# EAGLE library part ADG715BRUZ (library HEXABITZ_ICs)
Analog Switch Octal SPST 24-Pin TSSOP Tube
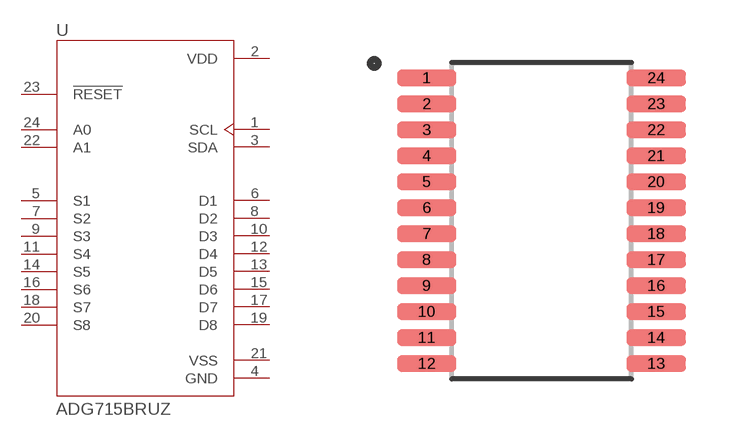
[diagram p0: symbol with the pads of SOP65P640X120-24N; footprint SOP65P640X120-24N]

Designator prefix U

## ADG715BRUZ (AVAILABILITY: Unavailable; DESCRIPTION: 8 Circuit IC Switch 1:1 4.5Ohm 24-TSSOP; MF: Analog Devices; MP: ADG715BRUZ; PACKAGE: TSSOP-24 Analog Devices; PRICE: None)  [SOP65P640X120-24N]
1  SCL  in
2  VDD  pwr
3  SDA
4  GND  pwr
5  S1
6  D1
7  S2
8  D2
9  S3
10  D3
11  S4
12  D4
13  D5
14  S5
15  D6
16  S6
17  D7
18  S7
19  D8
20  S8
21  VSS  pwr
22  A1  in
23  !RESET  in
24  A0  in

## Footprint SOP65P640X120-24N (pad centres in mm)
smd 1.49 x 0.41: 1 -2.87,3.575; 2 -2.87,2.925; 3 -2.87,2.275; 4 -2.87,1.625; 5 -2.87,0.975; 6 -2.87,0.325; 7 -2.87,-0.325; 8 -2.87,-0.975; 9 -2.87,-1.625; 10 -2.87,-2.275; 11 -2.87,-2.925; 12 -2.87,-3.575; 13 2.87,-3.575; 14 2.87,-2.925; 15 2.87,-2.275; 16 2.87,-1.625; 17 2.87,-0.975; 18 2.87,-0.325; 19 2.87,0.325; 20 2.87,0.975; 21 2.87,1.625; 22 2.87,2.275; 23 2.87,2.925; 24 2.87,3.575